# Altium schematic symbol library MP002808.SchLib: 1 symbol
Pins are listed as number, name and electrical type; pins without a type are passive.

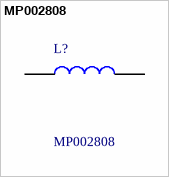
[diagram p0: symbol MP002808]

## MP002808
designator L?
MULTICOMP PRO MP002808Power Inductor (SMD), 100 H, 3 A, Unshielded; Geometry.Height: 7.11mm; Farnell Part Number: *; Farnell Price/Stock: *; Manufacturer_Name: Multicomp Pro; Manufacturer_Part_Number: MP002808; Datasheet Link: *
footprint MP002808
pins: 1, 2